# Altium footprint library BG96.PcbLib: 1 footprints
Each footprint in its own frame and in the unit in brackets; x right, y up, seen from the top. Pads: shape width x height; smd on the part's side, far side on the other; paste and mask are expansions set on the pad; w line width, h text height; cw(c..) or ccw(c..) is an arc to the next point about the centre after c.
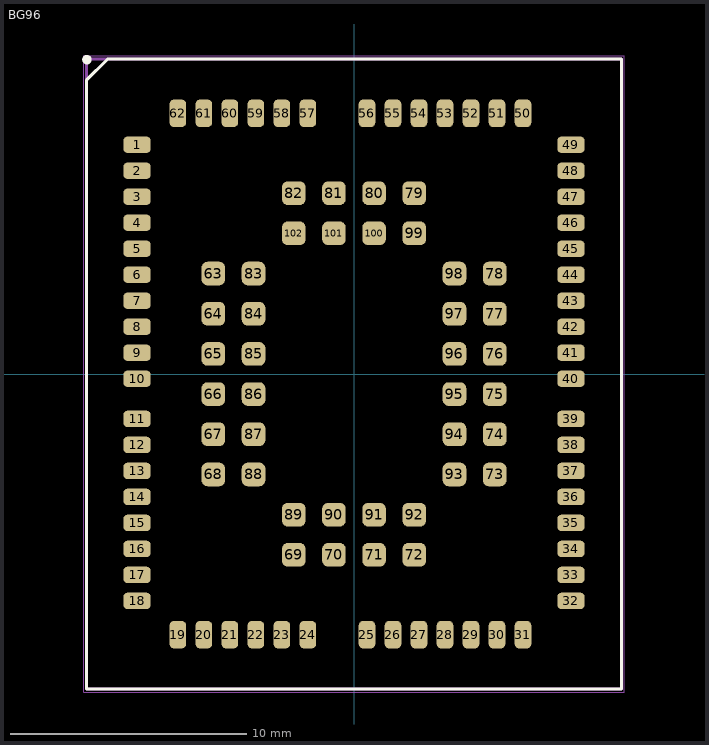
[diagram p0: the footprint, top view; thin cyan lines are the x and y axes]

## BG96 [mm]
pads (102):
  rrect50% 1.15x0.7 smd: 1(-9.18,9.7) 2(-9.18,8.6) 3(-9.18,7.5) 4(-9.18,6.4) 5(-9.18,5.3) 6(-9.18,4.2) 7(-9.18,3.1) 8(-9.18,2) 9(-9.18,0.9) 10(-9.18,-0.2) 11(-9.18,-1.9) 12(-9.18,-3) 13(-9.18,-4.1) 14(-9.18,-5.2) 15(-9.18,-6.3) 16(-9.18,-7.4) 17(-9.18,-8.5) 18(-9.18,-9.6) 32(9.18,-9.6) 33(9.18,-8.5) 34(9.18,-7.4) 35(9.18,-6.3) 36(9.18,-5.2) 37(9.18,-4.1) 38(9.18,-3) 39(9.18,-1.9) 40(9.18,-0.2) 41(9.18,0.9) 42(9.18,2) 43(9.18,3.1) 44(9.18,4.2) 45(9.18,5.3) 46(9.18,6.4) 47(9.18,7.5) 48(9.18,8.6) 49(9.18,9.7)
  rrect50% 0.7x1.15 smd: 19(-7.45,-11.03) 20(-6.35,-11.03) 21(-5.25,-11.03) 22(-4.15,-11.03) 23(-3.05,-11.03) 24(-1.95,-11.03) 25(0.55,-11.03) 26(1.65,-11.03) 27(2.75,-11.03) 28(3.85,-11.03) 29(4.95,-11.03) 30(6.05,-11.03) 31(7.15,-11.03) 50(7.15,11.03) 51(6.05,11.03) 52(4.95,11.03) 53(3.85,11.03) 54(2.75,11.03) 55(1.65,11.03) 56(0.55,11.03) 57(-1.95,11.03) 58(-3.05,11.03) 59(-4.15,11.03) 60(-5.25,11.03) 61(-6.35,11.03) 62(-7.45,11.03)
  rrect50% 1x1 smd: 63(-5.95,4.25) 64(-5.95,2.55) 65(-5.95,0.85) 66(-5.95,-0.85) 67(-5.95,-2.55) 68(-5.95,-4.25) 69(-2.55,-7.65) 70(-0.85,-7.65) 71(0.85,-7.65) 72(2.55,-7.65) 73(5.95,-4.25) 74(5.95,-2.55) 75(5.95,-0.85) 76(5.95,0.85) 77(5.95,2.55) 78(5.95,4.25) 79(2.55,7.65) 80(0.85,7.65) 81(-0.85,7.65) 82(-2.55,7.65) 83(-4.25,4.25) 84(-4.25,2.55) 85(-4.25,0.85) 86(-4.25,-0.85) 87(-4.25,-2.55) 88(-4.25,-4.25) 89(-2.55,-5.95) 90(-0.85,-5.95) 91(0.85,-5.95) 92(2.55,-5.95) 93(4.25,-4.25) 94(4.25,-2.55) 95(4.25,-0.85) 96(4.25,0.85) 97(4.25,2.55) 98(4.25,4.25) 99(2.55,5.95) 100(0.85,5.95) 101(-0.85,5.95) 102(-2.55,5.95)
Top Overlay:
  circle w0.2: c-11.3,13.3 r0.1
  lines w0.127: -11.325,-13.325 11.325,-13.325 11.325,13.325 -10.424,13.325 -11.325,12.424 -11.325,-13.325
Top Paste:
  drawing of 104 lines, arcs and shapes, not listed
Top Assembly:
  lines w0.05: -11.43,-13.462 11.43,-13.462 11.43,13.462 -11.43,13.462 -11.43,-13.462
Top Courtyard:
  lines w0.127: -11.325,-13.325 -11.325,13.325 ; -11.325,-13.325 -11.325,13.325 ; -11.325,-13.325 11.325,-13.325 ; -11.325,-13.325 11.325,-13.325 ; -11.325,13.325 11.325,13.325 ; -11.325,13.325 11.325,13.325 ; 11.325,-13.325 11.325,13.325 ; 11.325,-13.325 11.325,13.325
3D body "BG96--3DModel-STEP-231308.STEP": height 2.3, standoff 0, extent -11.25,-13.25 11.25,13.25